# Altium schematic symbol library FXLP34L6X.SchLib: 1 symbol
Pins are listed as number, name and electrical type; pins without a type are passive.

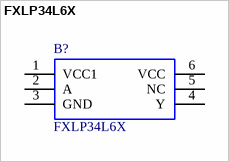
[diagram p0: symbol FXLP34L6X]

## FXLP34L6X
designator B?
FXLP34L6X, Logic Level Translator, Buffer 1 to 3.6V 6-Pin MicroPak, MicroPak W; Manufacturer_Name: Fairchild Semiconductor; Geometry.Height: 0.55mm; Supplier_Name: RS; RS Part Number: 6709728; Manufacturer_Part_Number: FXLP34L6X; Allied_Number: *; Other Part Number: *; Datasheet Link: https://www.fairchildsemi.com/datasheets/FX/FXLP34.pdf; 3D Package: *
footprint SON50P100X145X55-6N
pins: 1 VCC1 (power), 2 A, 3 GND, 4 Y, 5 NC, 6 VCC (power)